# EAGLE library part L3G4200DTR (library avc)
IC GYROSCOPE MEMS 3AXIS
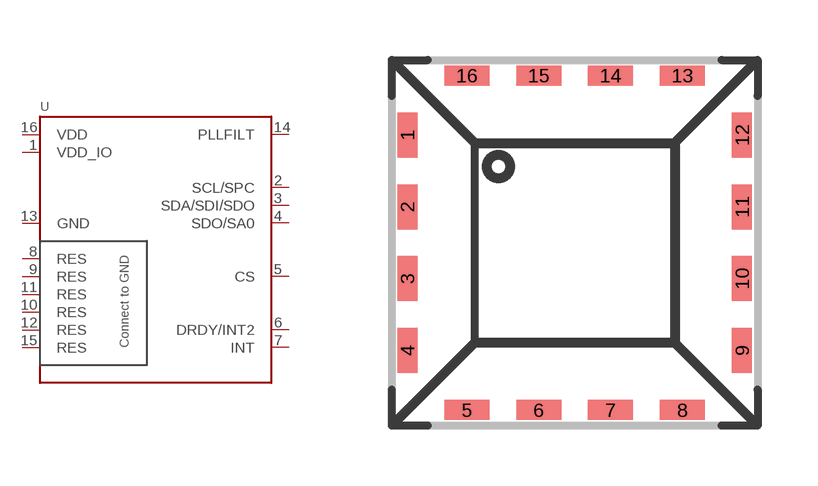
[diagram p6: symbol with the pads of LGA16; footprint LGA16]

Designator prefix U

## L3G4200DTR (PARTNUM: L3G4200DTR)  [LGA16]
1  VDD_IO
2  SCL/SPC
3  SDA/SDI/SDO
4  SDO/SA0
5  CS
6  DRDY/INT2
7  INT
8  RES
9  RES
10  RES
11  RES
12  RES
13  GND
14  PLLFILT
15  RES
16  VDD

## Footprint LGA16 (pad centres in mm)
smd 0.5 x 1.127: 1 -4.186,2.696; 2 -4.187,0.898; 3 -4.187,-0.898; 4 -4.187,-2.696; 9 4.186,-2.696; 10 4.187,-0.898; 11 4.187,0.898; 12 4.187,2.696
smd 1.127 x 0.5: 5 -2.696,-4.186; 6 -0.898,-4.187; 7 0.898,-4.187; 8 2.696,-4.187; 13 2.696,4.186; 14 0.898,4.187; 15 -0.898,4.187; 16 -2.696,4.187